# Altium integrated library 4-1437565-0.IntLib: 1 symbol
Pins are listed as number, name and electrical type; pins without a type are passive.

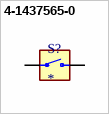
[diagram p0: symbol 4-1437565-0]

## 4-1437565-0
designator S?
Tactile Switch SPST-NO Top Actuated Through Hole; MF: TE Connectivity; MP: 4-1437565-0; SnapEDA_Link: https://www.snapeda.com/parts/4-1437565-0/TE+Connectivity+Alcoswitch+Switches/view-part/?ref=snap; Package: None; Value: *; Check_prices: https://www.snapeda.com/parts/4-1437565-0/TE+Connectivity+Alcoswitch+Switches/view-part/?ref=eda
footprint SW_4-1437565-0
pins: 1, 2